# Altium footprint library QFN-44.PcbLib: 1 footprints
Each footprint in its own frame and in the unit in brackets; x right, y up, seen from the top. Pads: shape width x height; smd on the part's side, far side on the other; paste and mask are expansions set on the pad; w line width, h text height; cw(c..) or ccw(c..) is an arc to the next point about the centre after c.
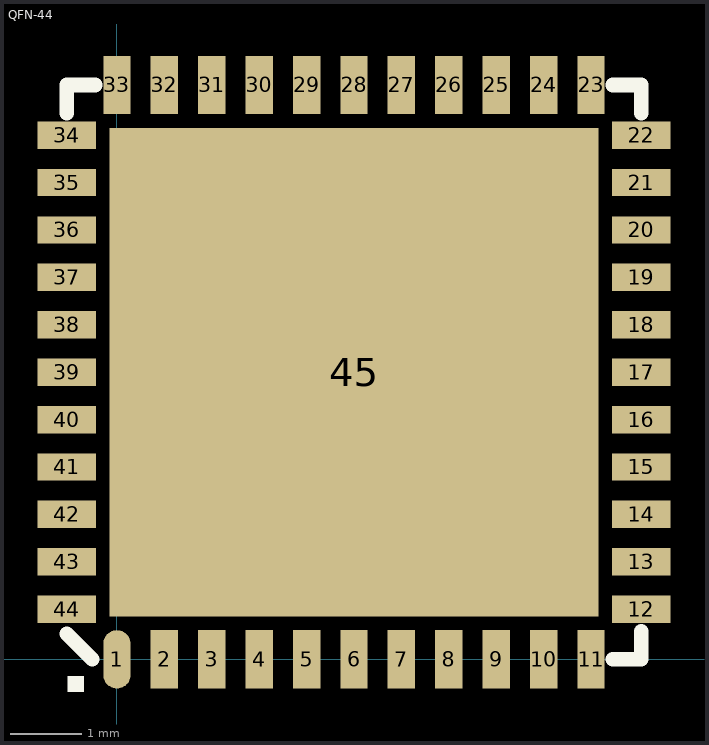
[diagram p0: the footprint, top view; thin cyan lines are the x and y axes]

## QFN-44 [mil]
height 40
pads (45):
  oval 15x32 smd: 1(0,0)
  rect 15x32 smd: 2(26,0) 3(52,0) 4(78,0) 5(104,0) 6(130,0) 7(156,0) 8(182,0) 9(208,0) 10(234,0) 11(260,0) 23(260,315) 24(234,315) 25(208,315) 26(182,315) 27(156,315) 28(130,315) 29(104,315) 30(78,315) 31(52,315) 32(26,315) 33(0,315)
  rect 32x15 smd: 12(287.5,27.5) 13(287.5,53.5) 14(287.5,79.5) 15(287.5,105.5) 16(287.5,131.5) 17(287.5,157.5) 18(287.5,183.5) 19(287.5,209.5) 20(287.5,235.5) 21(287.5,261.5) 22(287.5,287.5) 34(-27.5,287.5) 35(-27.5,261.5) 36(-27.5,235.5) 37(-27.5,209.5) 38(-27.5,183.5) 39(-27.5,157.5) 40(-27.5,131.5) 41(-27.5,105.5) 42(-27.5,79.5) 43(-27.5,53.5) 44(-27.5,27.5)
  rect 268x268 smd: 45(130,157.5)
TopOverlay:
  rectangle: -27,-18 -18,-9
  lines w8: -27.5,299.5 -27.5,315 -12,315 ; 272,0 287.5,0 287.5,15.5 ; 272,315 287.5,315 287.5,299.5 ; -27.5,14 -13.5,0 -27.5,14
3D body: height 34.5, standoff -0.5, extent -27.49,0 287.51,315